# Altium schematic symbol library SOD-323 1N4148WS T4.Schlib: 1 symbol
Pins are listed as number, name and electrical type; pins without a type are passive.

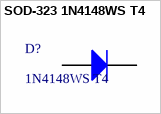
[diagram p0: symbol SOD-323 1N4148WS T4]

## SOD-323 1N4148WS T4
designator D?, comment 1N4148WS T4
二极管
footprint SOD-323
pins: 1 A, 2 K